# Altium schematic symbol library C2220.SchLib: 1 symbol
Pins are listed as number, name and electrical type; pins without a type are passive.

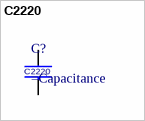
[diagram p0: symbol C2220]

## C2220
designator C?
pins: 1, 2